# Altium footprint library SM_4-SMD.PcbLib: 1 footprints
Each footprint in its own frame and in the unit in brackets; x right, y up, seen from the top. Pads: shape width x height; smd on the part's side, far side on the other; paste and mask are expansions set on the pad; w line width, h text height; cw(c..) or ccw(c..) is an arc to the next point about the centre after c.
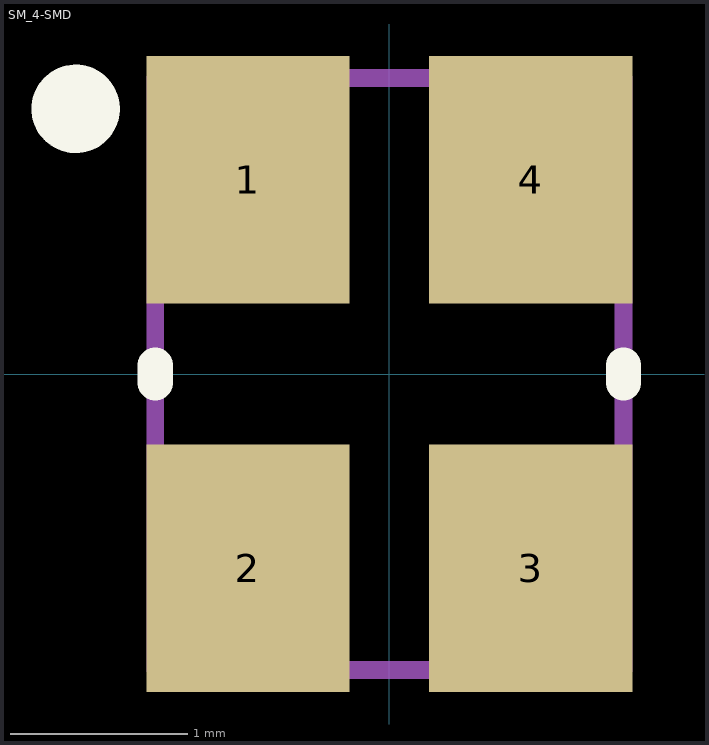
[diagram p0: the footprint, top view; thin cyan lines are the x and y axes]

## SM_4-SMD [mm]
pads (4):
  rect 1.15x1.4 smd: 1(-0.8,1.1) 2(-0.8,-1.1) 3(0.8,-1.1) 4(0.8,1.1)
Top Overlay:
  circle w0.25: c-1.775,1.5 r0.125
  lines w0.2: -1.325,-0.05 -1.325,0.05 ; 1.325,-0.05 1.325,0.05
Mechanical 5:
  circle w0.1: c-0.7,1 r0.2
  lines w0.1: -1.325,-1.675 1.325,-1.675 1.325,1.675 -1.325,1.675 -1.325,-1.675
  text ".Designator" at -1.397,2.54 h0.6
3D body: height 0.61, standoff 0.3, extent -0.903,0.797 -0.497,1.203
3D body: height 0.2, standoff 0, extent -1.325,-1.675 1.325,1.675
3D body: height 0.6, standoff 0.4, extent -1.099,-1.449 1.099,1.449
3D body: height 0.4, standoff 0.2, extent -1.301,-1.65 1.3,1.65